# EAGLE library part UPD6376 (library snes_mb)
16-bit Stereo DAC
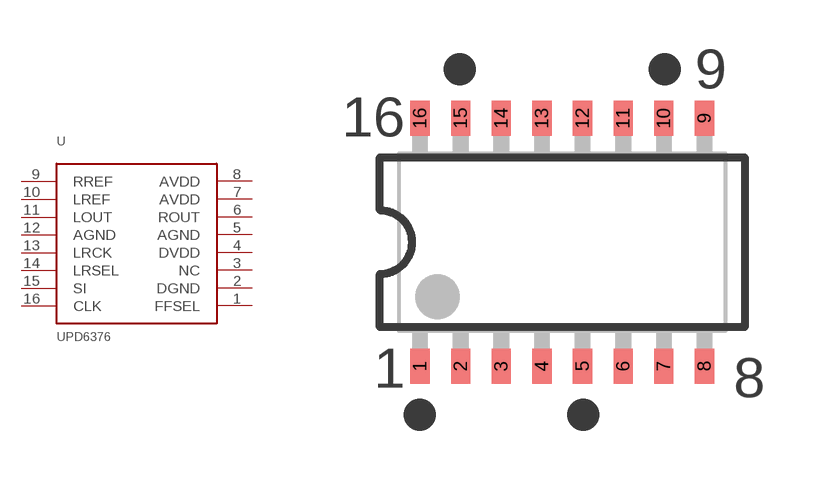
[diagram p13: symbol with the pads of SO16; footprint SO16]

Designator prefix U

## UPD6376  [SO16]
1  FFSEL
2  DGND  pwr
3  NC
4  DVDD  pwr
5  AGND  nc
6  ROUT
7  AVDD  pwr
8  AVDD  pwr
9  RREF
10  LREF
11  LOUT
12  AGND  pwr
13  LRCK
14  LRSEL
15  SI
16  CLK

## Footprint SO16 (pad centres in mm)
smd 0.6 x 1.1: 1 -4.445,-3.875; 2 -3.175,-3.875; 3 -1.905,-3.875; 4 -0.635,-3.875; 5 0.635,-3.875; 6 1.905,-3.875; 7 3.175,-3.875; 8 4.445,-3.875; 9 4.445,3.875; 10 3.175,3.875; 11 1.905,3.875; 12 0.635,3.875; 13 -0.635,3.875; 14 -1.905,3.875; 15 -3.175,3.875; 16 -4.445,3.875